# EAGLE library part M20-SMD (library chipcard-siemens)
Siemens M20 CHIP CARD HOLDER
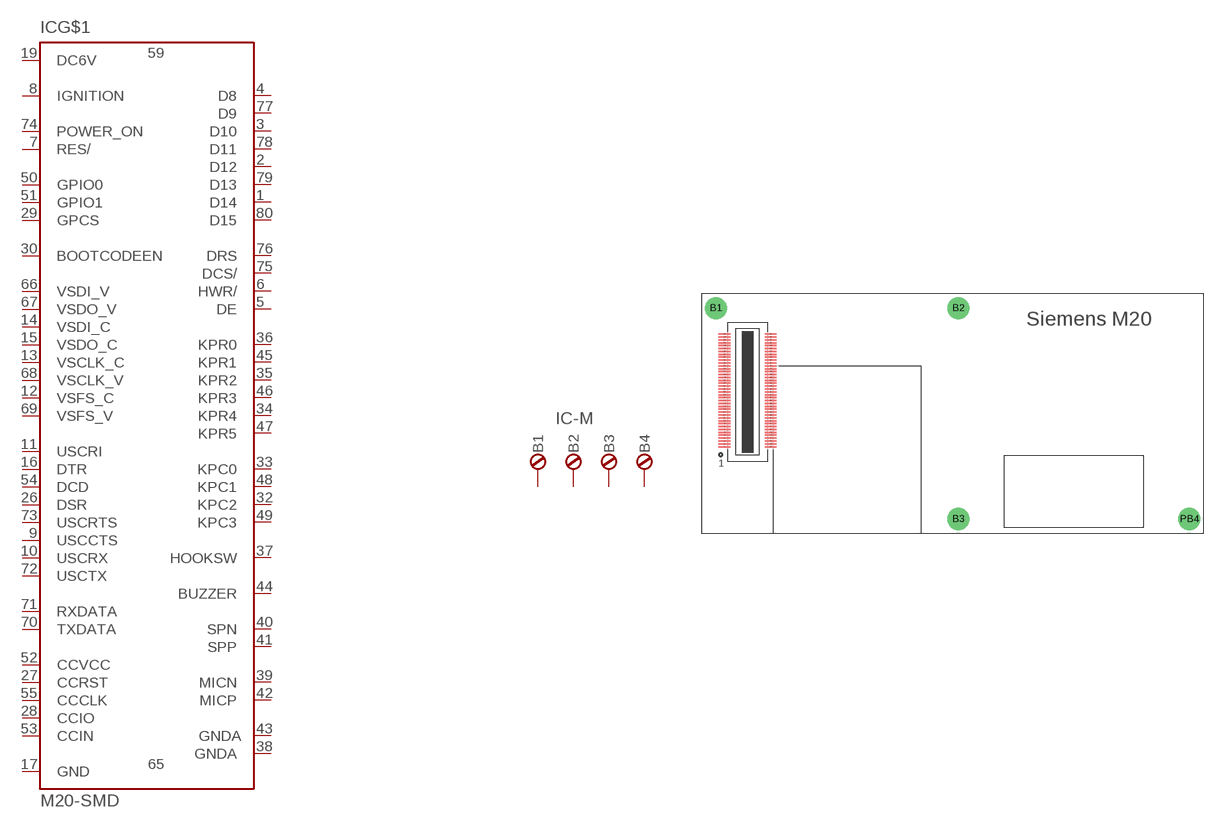
[diagram p0: symbol with the pads of M20-SMD; footprint M20-SMD]

Designator prefix IC; gates -M=M20-DRIL G$1=M20-SMD

## M20-SMD  [M20-SMD]
1  G$1:D14
2  G$1:D12
3  G$1:D10
4  G$1:D8
5  G$1:DE  out
6  G$1:HWR/  out
7  G$1:RES/  out
8  G$1:IGNITION  in
9  G$1:USCCTS  in
10  G$1:USCRX  in
11  G$1:USCRI  out
12  G$1:VSFS_C  in
13  G$1:VSCLK_C  in
14  G$1:VSDI_C  in
15  G$1:VSDO_C  out
16  G$1:DTR  in
17  G$1:GND  pwr
18  G$1:DC6V  pwr
19  G$1:DC6V  pwr
20  G$1:DC6V  pwr
21  G$1:DC6V  pwr
22  G$1:DC6V  pwr
23  G$1:GND  pwr
24  G$1:GND  pwr
25  G$1:GND  pwr
26  G$1:DSR  out
27  G$1:CCRST  out
28  G$1:CCIO
29  G$1:GPCS  out
30  G$1:BOOTCODEEN  in
31  G$1:NC  nc
32  G$1:KPC2  out
33  G$1:KPC0  out
34  G$1:KPR4  in
35  G$1:KPR2  in
36  G$1:KPR0  in
37  G$1:HOOKSW  in
38  G$1:GNDA  pwr
39  G$1:MICN  in
40  G$1:SPN  out
41  G$1:SPP  out
42  G$1:MICP  in
43  G$1:GNDA  pwr
44  G$1:BUZZER  out
45  G$1:KPR1  in
46  G$1:KPR3  in
47  G$1:KPR5  in
48  G$1:KPC1  out
49  G$1:KPC3  out
50  G$1:GPIO0  in
51  G$1:GPIO1  in
52  G$1:CCVCC  out
53  G$1:CCIN  in
54  G$1:DCD  out
55  G$1:CCCLK  out
56  G$1:GND  pwr
57  G$1:GND  pwr
58  G$1:DC6V  pwr
59  G$1:DC6V  pwr
60  G$1:DC6V  pwr
61  G$1:DC6V  pwr
62  G$1:DC6V  pwr
63  G$1:GND  pwr
64  G$1:GND  pwr
65  G$1:GND  pwr
66  G$1:VSDI_V  in
67  G$1:VSDO_V  out
68  G$1:VSCLK_V  out
69  G$1:VSFS_V  out
70  G$1:TXDATA  out
71  G$1:RXDATA  in
72  G$1:USCTX  out
73  G$1:USCRTS  out
74  G$1:POWER_ON  out
75  G$1:DCS/  out
76  G$1:DRS  out
77  G$1:D9
78  G$1:D11
79  G$1:D13
80  G$1:D15
B1  -M:B1  pas
B2  -M:B2  pas
B3  -M:B3  pas
PB4  -M:B4  pas

## Footprint M20-SMD (pad centres in mm)
Siemens M20 CHIP CARD HOLDER
smd 2.007 x 0.254: 1 -4,-9.5; 2 -4,-9; 3 -4,-8.5; 4 -4,-8; 5 -4,-7.5; 6 -4,-7; 7 -4,-6.5; 8 -4,-6; 9 -4,-5.5; 10 -4,-5; 11 -4,-4.5; 12 -4,-4; 13 -4,-3.5; 14 -4,-3; 15 -4,-2.5; 16 -4,-2; 17 -4,-1.5; 18 -4,-1; 19 -4,-0.5; 20 -4,0; 21 -4,0.5; 22 -4,1; 23 -4,1.5; 24 -4,2; 25 -4,2.5; 26 -4,3; 27 -4,3.5; 28 -4,4; 29 -4,4.5; 30 -4,5; 31 -4,5.5; 32 -4,6; 33 -4,6.5; 34 -4,7; 35 -4,7.5; 36 -4,8; 37 -4,8.5; 38 -4,9; 39 -4,9.5; 40 -4,10; 41 4,10; 42 4,9.5; 43 4,9; 44 4,8.5; 45 4,8; 46 4,7.5; 47 4,7; 48 4,6.5; 49 4,6; 50 4,5.5; 51 4,5; 52 4,4.5; 53 4,4; 54 4,3.5; 55 4,3; 56 4,2.5; 57 4,2; 58 4,1.5; 59 4,1; 60 4,0.5; 61 4,0; 62 4,-0.5; 63 4,-1; 64 4,-1.5; 65 4,-2; 66 4,-2.5; 67 4,-3; 68 4,-3.5; 69 4,-4; 70 4,-4.5; 71 4,-5; 72 4,-5.5; 73 4,-6; 74 4,-6.5; 75 4,-7; 76 4,-7.5; 77 4,-8; 78 4,-8.5; 79 4,-9; 80 4,-9.5
drill 2.184 pad 3.81 round: B1 -5.5,14.5; B2 36.5,14.5; B3 36.5,-22; PB4 76.5,-22